# EAGLE library part WAL_SMPS_DUAL (library walnut_smps_transformer)
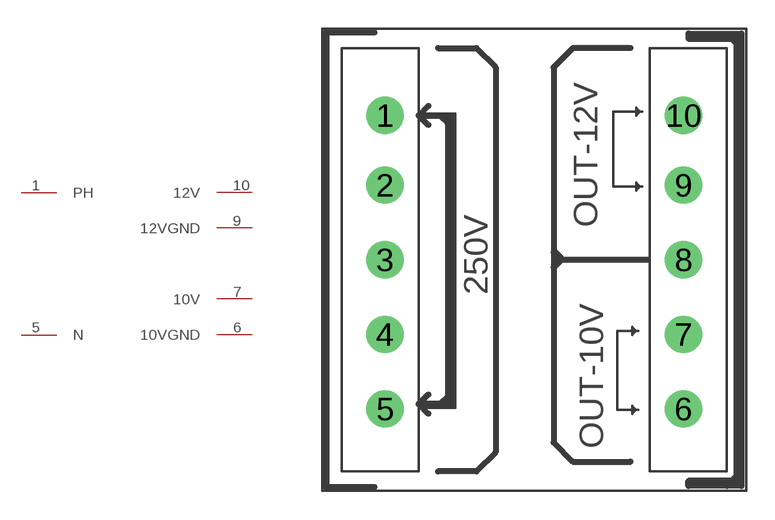
[diagram p0: symbol with the pads of WALNUT_SMPS_TRANSFORMER; footprint WALNUT_SMPS_TRANSFORMER]

Designator prefix -

## WAL_SMPS_DUAL  [WALNUT_SMPS_TRANSFORMER]
1  PH  in
5  N  in
6  10VGND  out
7  10V  out
9  12VGND  out
10  12V  out

## Footprint WALNUT_SMPS_TRANSFORMER (pad centres in mm)
drill 0.8 pad 1.93: 1 -7.75,7.5; 2 -7.75,3.875; 3 -7.75,0; 4 -7.75,-3.875; 5 -7.75,-7.75; 6 7.75,-7.75; 7 7.75,-3.875; 8 7.75,0; 9 7.75,3.875; 10 7.75,7.5